# EAGLE library part BME (library bluepill)
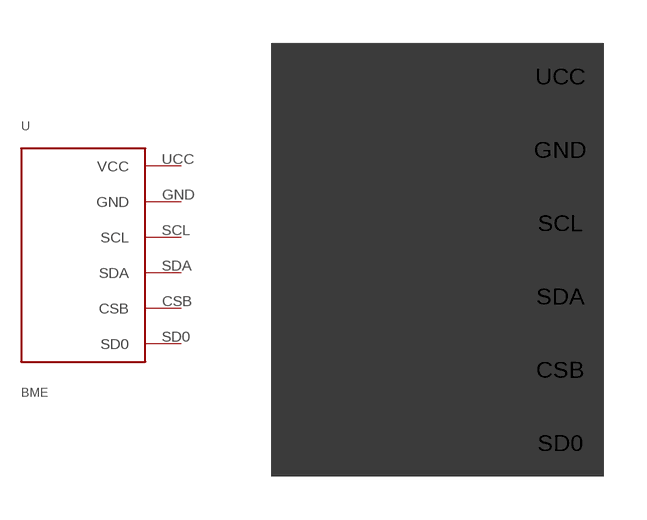
[diagram p4: symbol with the pads of BME; footprint BME]

Designator prefix -

## BME  [BME]
CSB  CSB
GND  GND
SCL  SCL
SD0  SD0
SDA  SDA
UCC  VCC

## Footprint BME (pad centres in mm)
drill 0.8 square: CSB 4.25,-3.81; GND 4.25,3.81; SCL 4.25,1.27; SD0 4.25,-6.35; SDA 4.25,-1.27; UCC 4.25,6.35
hole 3 at -3.25,5
hole 3 at -3.25,-5